# EAGLE library part H4042-DL (library LCD)
PN: H4042-DL LCD Display Mfr: Hitech Displays Display used on ATMEL Butterfly
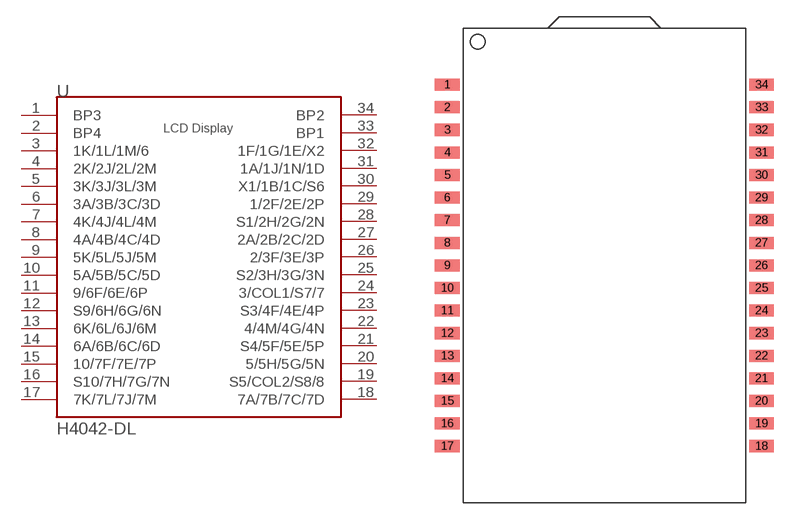
[diagram p0: symbol with the pads of H4042-DL; footprint H4042-DL]

Designator prefix U

## H4042-DL  [H4042-DL]
1  BP3
2  BP4
3  1K/1L/1M/6
4  2K/2J/2L/2M
5  3K/3J/3L/3M
6  3A/3B/3C/3D
7  4K/4J/4L/4M
8  4A/4B/4C/4D
9  5K/5L/5J/5M
10  5A/5B/5C/5D
11  9/6F/6E/6P
12  S9/6H/6G/6N
13  6K/6L/6J/6M
14  6A/6B/6C/6D
15  10/7F/7E/7P
16  S10/7H/7G/7N
17  7K/7L/7J/7M
18  7A/7B/7C/7D
19  S5/COL2/S8/8
20  5/5H/5G/5N
21  S4/5F/5E/5P
22  4/4M/4G/4N
23  S3/4F/4E/4P
24  3/COL1/S7/7
25  S2/3H/3G/3N
26  2/3F/3E/3P
27  2A/2B/2C/2D
28  S1/2H/2G/2N
29  1/2F/2E/2P
30  X1/1B/1C/S6
31  1A/1J/1N/1D
32  1F/1G/1E/X2
33  BP1
34  BP2

## Footprint H4042-DL (pad centres in mm)
smd 2.184 x 1.067: 1 -13.9,16; 2 -13.9,14; 3 -13.9,12; 4 -13.9,10; 5 -13.9,8; 6 -13.9,6; 7 -13.9,4; 8 -13.9,2; 9 -13.9,0; 10 -13.9,-2; 11 -13.9,-4; 12 -13.9,-6; 13 -13.9,-8; 14 -13.9,-10; 15 -13.9,-12; 16 -13.9,-14; 17 -13.9,-16; 18 13.9,-16; 19 13.9,-14; 20 13.9,-12; 21 13.9,-10; 22 13.9,-8; 23 13.9,-6; 24 13.9,-4; 25 13.9,-2; 26 13.9,0; 27 13.9,2; 28 13.9,4; 29 13.9,6; 30 13.9,8; 31 13.9,10; 32 13.9,12; 33 13.9,14; 34 13.9,16